# Altium schematic symbol library Conn,Micro-Fit,Hdr,6Pos,RA,Thru.Schlib: 1 symbol
Pins are listed as number, name and electrical type; pins without a type are passive.

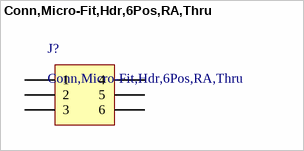
[diagram p0: symbol Conn,Micro-Fit,Hdr,6Pos,RA,Thru]

## Conn,Micro-Fit,Hdr,6Pos,RA,Thru
designator J?
Connector Header Through Hole, Right Angle 6 position 0.118" (3.00mm)
pins: 1, 2, 3, 4, 5, 6